# EAGLE library part 615006138421 (library InputOutputIO (rev19a))
WR-MJ Horizontal Plastic 6P6C Modular Jack Tab Up, 6 Pins=>Code : Con_I-O_MJ-H_Plastic_Up_615006138421 <http://katalog.we-online.de/media/images/eican/Con_I-O_MJ-H_Plastic_Up_6150xx138421_pf2.jpg> Details see: http://katalog.we-online.de/en/em/MJ_HORIZONTAL_PLASTIC_6PXC_TAB_UP Created 2014-07-10, Karrer Zheng 2014 (C) Würth Elektronik
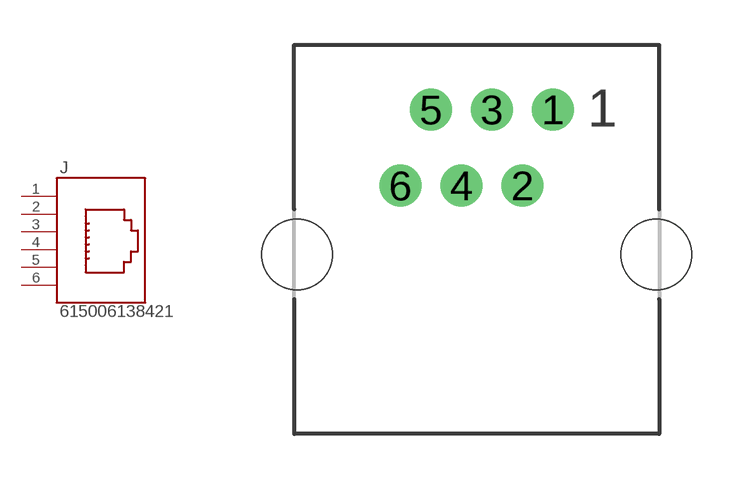
[diagram p96: symbol with the pads of 615006138421; footprint 615006138421]

Designator prefix J

## 615006138421  [615006138421]
1  6  pas
2  5  pas
3  4  pas
4  3  pas
5  2  pas
6  1  pas

## Footprint 615006138421 (pad centres in mm)
WR-MJ Horizontal Plastic 6P6C Modular Jack Tab Up, 6 Pins
drill 0.9: 1 2.55,4.84; 2 1.53,2.3; 3 0.51,4.84; 4 -0.51,2.3; 5 -1.53,4.84; 6 -2.55,2.3
hole 2.36 at -6,0
hole 2.36 at 6,0